# Altium footprint library OSP_DJB_JIG.PcbLib: 7 footprints
Each footprint in its own frame and in the unit in brackets; x right, y up, seen from the top. Pads: shape width x height; smd on the part's side, far side on the other; paste and mask are expansions set on the pad; w line width, h text height; cw(c..) or ccw(c..) is an arc to the next point about the centre after c.
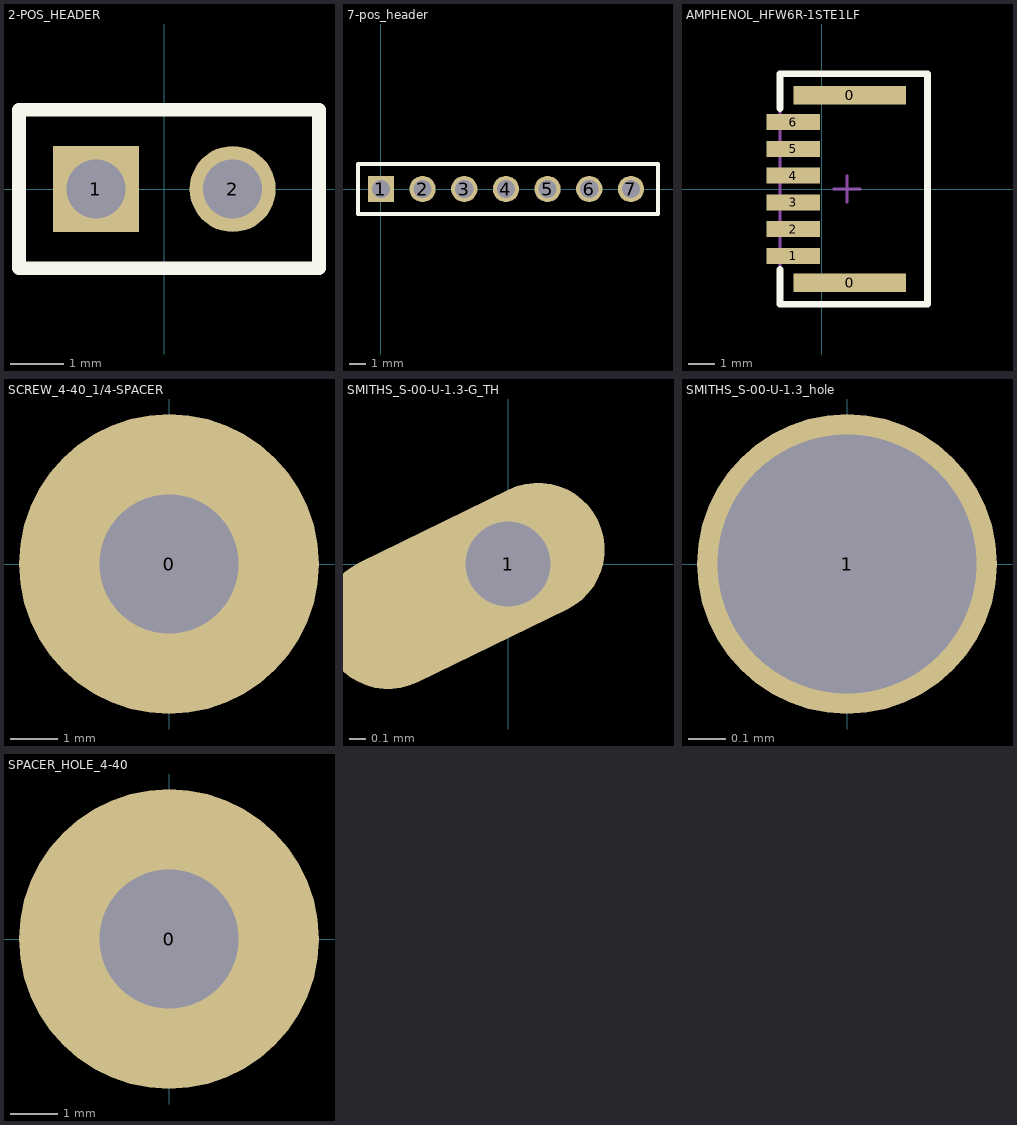
[diagram p0: the footprints below, top view; thin cyan lines are the x and y axes]

## 2-POS_HEADER [mm] "2 pin header 2.54 mm pitch"
pads (2):
  rect 1.6x1.6 hole 1.1: 1(-1.27,0)
  round 1.6 hole 1.1: 2(1.27,0)
Top Overlay:
  lines w0.254: -2.7,-1.475 2.875,-1.475 2.875,1.475 -2.7,1.475 -2.7,-1.475
3D body "pin_header_aw140-eg-g02d.stp": height 8.21, standoff -2.99, extent -2.465,-1.246 2.615,1.253

## 7-pos_header [mm] "7-pos male pin header, 2.54mm pitch"
pads (7):
  rect 1.6x1.6 hole 1.1: 1(0,0)
  round 1.6 hole 1.1: 2(2.54,0) 3(5.08,0) 4(7.62,0) 5(10.16,0) 6(12.7,0) 7(15.24,0)
Top Overlay:
  lines w0.254: -1.397,-1.524 16.891,-1.524 16.891,1.524 -1.397,1.524 -1.397,-1.524
3D body "pin_header_aw140-eg-g07d.stp": height 8.21, standoff -2.99, extent -1.17,-1.246 16.61,1.253

## AMPHENOL_HFW6R-1STE1LF [mm] "Amphenol HFW6R-1STE1LF 6-pin flat flexible cable connector"
pads (8):
  rect 4.2x0.7 smd: 0(1.05,-3.5) 0(1.05,3.5)
  rect 2x0.6 smd: 1(-1.05,-2.5) 2(-1.05,-1.5) 3(-1.05,-0.5) 4(-1.05,0.5) 5(-1.05,1.5) 6(-1.05,2.5)
Top Overlay:
  lines w0.254: -1.55,-3 -1.55,-4.3 3.95,-4.3 3.95,4.3 -1.55,4.3 -1.55,3
Mechanical 15:
  lines w0.1: 0.45,0 1.45,0 ; 0.95,-0.5 0.95,0.5 ; -1.55,-4.3 3.95,-4.3 3.95,4.3 -1.55,4.3 -1.55,-4.3
3D body: height 1.9, standoff 0, extent -1.55,-4.3 3.95,4.3

## SCREW_4-40_1/4-SPACER [mil] "Hole for 4-40 screw with 1/4\" spacer"
height 393.7
pads (1):
  round 250 hole 116 paste-39370.1 mask-39370.1: 0(0,0)
3D body: height 250, standoff 0, extent -125,-124.87 125,124.87
3D body: height 600, standoff -100, extent -55.56,-55.89 56,55.89

## SMITHS_S-00-U-1.3-G_TH [mm] "Smiths Interconnect / IDI S-00-U-1.3-G Pogo Pin, Through-Hole Mount"
pads (1):
  oval 0.8x1.8 hole 0.51 copper offset -0.27,-0.132 rot 116: 1(0,0)
3D body: height 10.54, standoff 0, extent -0.49,-0.469 0.431,0.45
3D body: height 0, standoff -3.43, extent -0.363,-0.343 0.304,0.324
3D body: height 13.33, standoff 0, extent -0.363,-0.343 0.304,0.324

## SMITHS_S-00-U-1.3_hole [mm] "Smiths Interconnect / IDI S-00-U-1.3-G Pogo Pin 0.99mm Centers 16.7mm Long 2.8mm Travel, Mid Mount"
pads (1):
  round 0.8 hole 0.69: 1(0,0)
3D body: height 0.01, standoff 0, extent -0.02,0.355 0.02,0.395

## SPACER_HOLE_4-40 [mil] "Hole for 4-40 screw"
height 393.7
pads (1):
  round 250 hole 116 paste-39370.1 mask-39370.1: 0(0,0)